# EAGLE library part RX-433-RWS-374 (library #PaJa_31)
Reciever
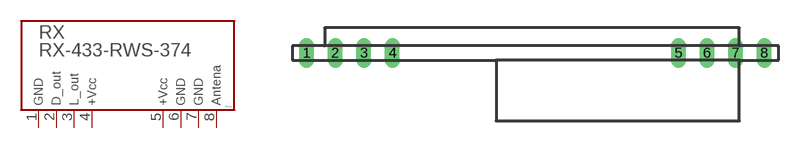
[diagram p68: symbol with the pads of RX433-ASK; footprint RX433-ASK]

Designator prefix RX

## RX-433-RWS-374  [RX433-ASK]
1  GND  pwr
2  DOUT  out
3  LOUT  out
4  VCC  pwr
5  VCC  pwr
6  GND  pwr
7  GND  pwr
8  ANTENA  pas

## Footprint RX433-ASK (pad centres in mm)
drill 0.813 pad 1.27 long: 1 -20.32,0; 2 -17.78,0; 3 -15.24,0; 4 -12.7,0; 5 12.7,0; 6 15.24,0; 7 17.78,0; 8 20.32,0